# Altium footprint library Switch.PcbLib: 9 footprints
Each footprint in its own frame and in the unit in brackets; x right, y up, seen from the top. Pads: shape width x height; smd on the part's side, far side on the other; paste and mask are expansions set on the pad; w line width, h text height; cw(c..) or ccw(c..) is an arc to the next point about the centre after c.
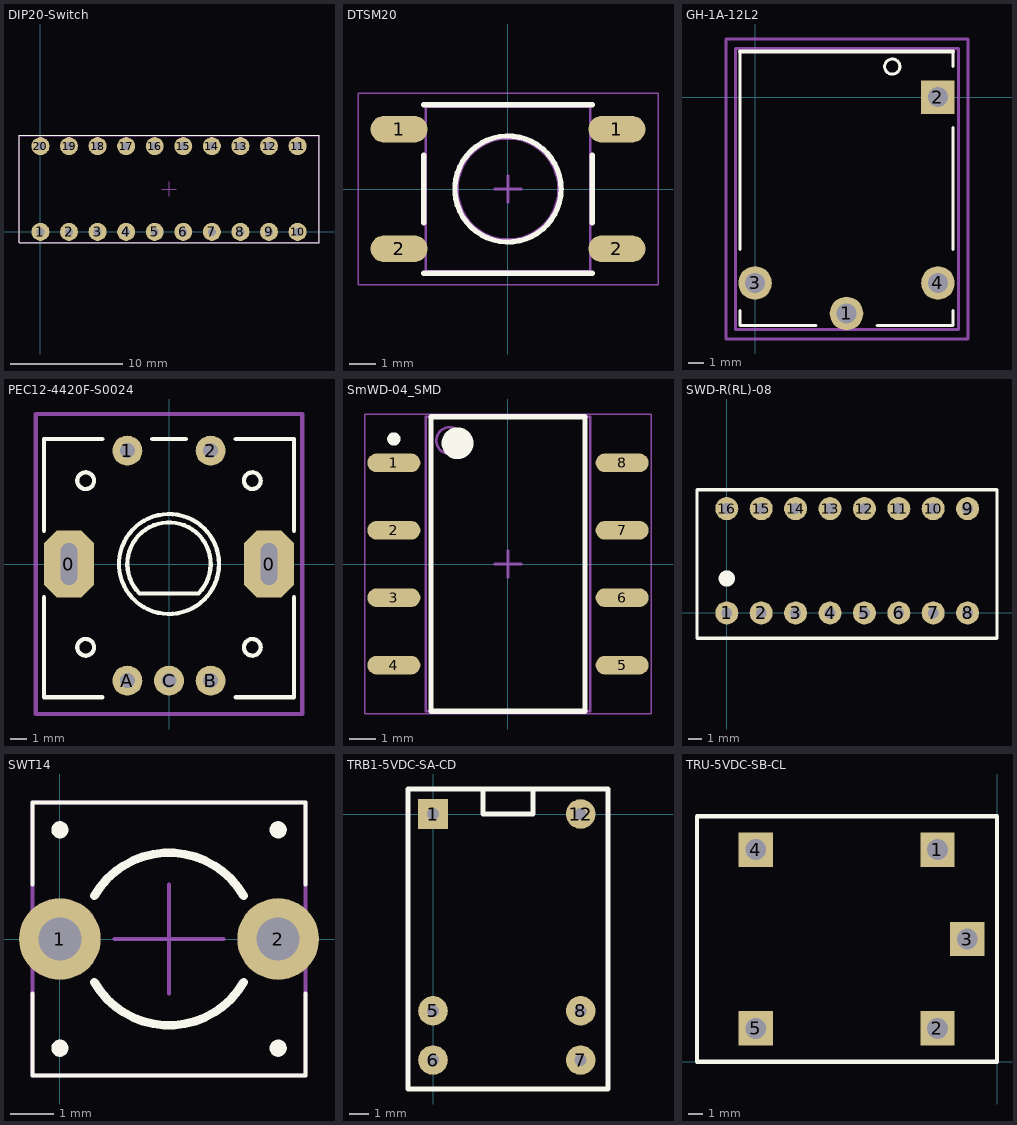
[diagram p0: the footprints below, top view; thin cyan lines are the x and y axes]

## DIP20-Switch [mm] "Стандартный DIP20 корпус для выводных переключателей"
height 8
pads (20):
  round 1.6 hole 0.7: 1(0,0) 2(2.54,0) 3(5.08,0) 4(7.62,0) 5(10.16,0) 6(12.7,0) 7(15.24,0) 8(17.78,0) 9(20.32,0) 10(22.86,0) 11(22.86,7.62) 12(20.32,7.62) 13(17.78,7.62) 14(15.24,7.62) 15(12.7,7.62) 16(10.16,7.62) 17(7.62,7.62) 18(5.08,7.62) 19(2.54,7.62) 20(0,7.62)
Top Overlay:
  lines w0.1: -1.905,-0.953 -1.905,8.572 24.765,8.572 24.765,-0.953 -1.905,-0.953
Mechanical 13:
  lines w0.1: -1.875,-0.925 24.725,-0.925 24.725,8.525 -1.875,8.525 -1.875,-0.925
Mechanical 15:
  lines w0.05: 10.795,3.81 12.065,3.81 ; 11.43,3.175 11.43,4.445 ; -1.875,-0.925 -1.875,8.525 24.725,8.525 24.725,-0.925 -1.875,-0.925
3D body: height 6.4, standoff -3, extent -1.79,-1.04 24.91,8.66

## DTSM20 [mm] "DTSM20 button footprint"
height 4.5
pads (4):
  oval 2.15x1 smd: 1(-4.1,2.25) 1(4.1,2.25) 2(-4.1,-2.25) 2(4.1,-2.25)
Top Overlay:
  circle w0.2: c0,0 r2
  lines w0.2: -3.175,-3.175 3.175,-3.175 ; -3.175,-1.27 -3.175,1.27 ; -3.175,3.175 3.175,3.175 ; 3.175,-1.27 3.175,1.27
Mechanical 13:
  circle w0.1: c0,0 r1.905
  lines w0.1: -3.1,-3.1 3.1,-3.1 3.1,3.1 -3.1,3.1 -3.1,-3.1
Mechanical 15:
  lines w0.05: -5.65,-3.6 5.65,-3.6 5.65,3.6 -5.65,3.6 -5.65,-3.6
  lines w0.1: -0.5,0 0.5,0 ; 0,-0.5 0,0.5
3D body: height 5.5, standoff 3.5, extent -1.736,-1.747 1.75,1.747
3D body: height 4, standoff 3.5, extent 1.663,1.66 2.659,2.658
3D body: height 4, standoff 3.5, extent 1.663,-2.658 2.659,-1.66
3D body: height 4, standoff 3.5, extent -2.655,-2.658 -1.659,-1.66
3D body: height 4, standoff 3.5, extent -2.655,1.66 -1.659,2.658
3D body: height 3.5, standoff 0.05, extent -3.1,-3.1 3.1,3.1

## GH-1A-12L2 [mm]
height 15
pads (4):
  round 2.2 hole 1.3: 1(6,-14.2) 3(0,-12.2) 4(12,-12.2)
  rect 2.2x2.2 hole 1.3: 2(12,0)
Top Overlay:
  circle w0.2: c9,2 r0.5
  lines w0.2: -1,-14 -1,-15 4,-15 ; -1,-10 -1,3 ; 8,-15 13,-15 13,-14 ; 13,-10 13,-2 ; 13,2 13,3
  lines w0.254: -1,3 13,3
Mechanical 13:
  lines w0.2: -1.27,-15.24 13.335,-15.24 13.335,3.175 -1.27,3.175 -1.27,-15.24
Mechanical 15:
  lines w0.2: -1.905,-15.875 13.97,-15.875 13.97,3.81 -1.905,3.81 -1.905,-15.875
3D body: height -0.1, standoff -0.4, extent 11.504,-0.499 12.5,0.499
3D body: height -0.1, standoff -0.4, extent 11.504,-12.999 12.5,-12.001
3D body: height -0.1, standoff -0.4, extent 5.504,-15.499 6.5,-14.501
3D body: height -0.1, standoff -0.4, extent -0.496,-12.999 0.5,-12.001
3D body: height 15.3, standoff 0, extent -1.7,-15.6 13.7,3.4

## PEC12-4420F-S0024 [mm]
pads (7):
  oct 3x4 hole 1 slot 2.5 at 90 deg: 0(-6,0) 0(6,0)
  round 1.8 hole 0.9: 1(-2.5,6.8) 2(2.5,6.8) A(-2.5,-7) B(2.5,-7) C(0,-7)
Top Overlay:
  circle w0.254: c0,0 r3
  circle w0.254: c-5,5 r0.5
  circle w0.254: c5,5 r0.5
  circle w0.254: c-5,-5 r0.5
  circle w0.254: c5,-5 r0.5
  lines w0.254: -7.5,-2 -7.5,-8 -4,-8 ; -7.5,2 -7.5,7.5 -4,7.5 ; -1,7.5 1,7.5 ; 4,-8 7.5,-8 7.5,-2 ; 4,7.5 7.5,7.5 7.5,2 ; -1.768,-1.768 cw(c0,0) 1.768,-1.768 -1.768,-1.768
Mechanical 15:
  lines w0.254: -8,-9 8,-9 8,9 -8,9 -8,-9
3D body: height 18.3, standoff -2.58, extent -6.2,-7.2 6.2,7

## SmWD-04_SMD [mm] "CFP, 8-Leads, Body 11,10x6,20mm (max), Pitch 2,54mm, IPC High Density"
height 3
pads (8):
  oval 2x0.7 smd: 1(-4.3,3.81) 2(-4.3,1.27) 3(-4.3,-1.27) 4(-4.3,-3.81) 5(4.3,-3.81) 6(4.3,-1.27) 7(4.3,1.27) 8(4.3,3.81)
Top Overlay:
  circle w0.25: c-4.3,4.71 r0.125
  circle w0.6: c-1.9,4.55 r0.3
  lines w0.2: -2.9,-5.55 2.9,-5.55 2.9,5.55 -2.9,5.55 -2.9,-5.55
Mechanical 13:
  circle w0.1: c-2.2,4.65 r0.5
  lines w0.1: -3.1,-5.55 3.1,-5.55 3.1,5.55 -3.1,5.55 -3.1,-5.55
Mechanical 15:
  lines w0.05: -5.4,-5.65 5.4,-5.65 5.4,5.65 -5.4,5.65 -5.4,-5.65
  lines w0.1: -0.5,0 0.5,0 ; 0,-0.5 0,0.5
3D body: height 3, standoff 0.1, extent -3.1,-5.55 3.1,5.55

## SWD-R(RL)-08 [mm] "DIP16_SWITCH"
pads (16):
  round 1.7 hole 0.8: 1(0,0) 2(2.54,0) 3(5.08,0) 4(7.62,0) 5(10.16,0) 6(12.7,0) 7(15.24,0) 8(17.78,0) 9(17.78,7.7) 10(15.24,7.7) 11(12.7,7.7) 12(10.16,7.7) 13(7.62,7.7) 14(5.08,7.7) 15(2.54,7.7) 16(0,7.7)
Top Overlay:
  circle w0.6: c0,2.54 r0.3
  lines w0.254: -2.2,-1.875 19.95,-1.875 19.95,9.1 -2.2,9.1 -2.2,-1.875
3D body: height 10.46, standoff -3.04, extent -2.065,-3.635 19.815,8.975

## SWT14 [mm]
pads (2):
  round 1.9 hole 1: 1(0,0) 2(5.08,0)
Top Overlay:
  circle w0.2: c0,-2.54 r0.1
  circle w0.2: c5.08,-2.54 r0.1
  circle w0.2: c5.08,2.54 r0.1
  circle w0.2: c0,2.54 r0.1
  lines w0.1: -0.635,-1.27 -0.635,-3.175 5.715,-3.175 5.715,-1.27 ; -0.635,1.27 -0.635,3.175 5.715,3.175 5.715,1.27
  lines w0.2: 0.801,-1.004 ccw(c2.54,0) 4.279,-1.004 ; 0.801,1.004 cw(c2.54,0) 4.279,1.004
Mechanical 13:
  lines w0.1: -0.635,-3.175 5.715,-3.175 5.715,3.175 -0.635,3.175 -0.635,-3.175
Mechanical 15:
  lines w0.1: 1.27,0 3.81,0 ; 2.54,-1.27 2.54,1.27 ; -0.635,-3.175 5.715,-3.175 5.715,3.175 -0.635,3.175 -0.635,-3.175
3D body: height 16.5, standoff 3.5, extent 0.804,-1.746 4.29,1.747
3D body: height 3.5, standoff 0, extent -0.56,-3.1 5.64,3.1

## TRB1-5VDC-SA-CD [mm]
pads (6):
  rect 1.5x1.5 hole 0.6: 1(0,0)
  round 1.5 hole 0.6: 5(0,-10) 6(0,-12.5) 7(7.5,-12.5) 8(7.5,-10) 12(7.5,0)
Top Overlay:
  lines w0.254: 2.54,1.27 2.54,0 5.08,0 5.08,1.27 ; -1.27,-13.97 8.89,-13.97 8.89,1.27 -1.27,1.27 -1.27,-13.97
3D body: height -0.1, standoff -0.4, extent -0.496,-0.499 0.5,0.499
3D body: height -0.1, standoff -0.4, extent 7.004,-0.499 8,0.499
3D body: height -0.1, standoff -0.4, extent 7.004,-10.499 8,-9.501
3D body: height -0.1, standoff -0.4, extent 7.004,-12.999 8,-12.001
3D body: height -0.1, standoff -0.4, extent -0.496,-12.999 0.5,-12.001
3D body: height -0.1, standoff -0.4, extent -0.496,-10.499 0.5,-9.501
3D body: height 10, standoff 0, extent -1.27,-13.97 8.89,1.27

## TRU-5VDC-SB-CL [mm]
pads (5):
  rect 2.3x2.3 hole 1.4: 1(-4,14.25) 2(-4,2.25) 3(-2,8.25) 4(-16.2,14.25) 5(-16.2,2.25)
Top Overlay:
  lines w0.3: -20.15,0 0,0 0,16.5 -20.15,16.5 -20.15,0
3D body: height 21.2, standoff 1, extent -20.228,-0.014 0.153,16.621